# EAGLE library part BAS70VY-QX (library SamacSys_Parts)
General-purpose triple Schottky diode Source: Datasheet <https://assets.nexperia.com/documents/data-sheet/BAS70VY-Q.pdf>
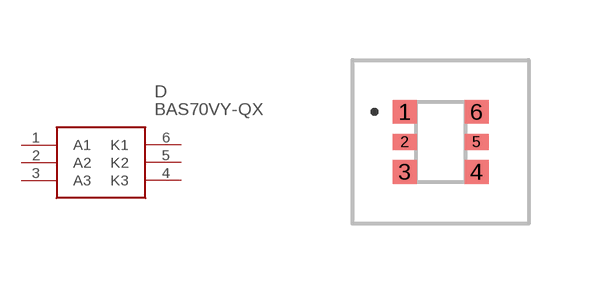
[diagram p47: symbol with the pads of BAS70VYQX; footprint BAS70VYQX]

Designator prefix D

## BAS70VY-QX (DESCRIPTION: General-purpose triple Schottky diode; HEIGHT: 1.1mm; MANUFACTURER_NAME: Nexperia; MANUFACTURER_PART_NUMBER: BAS70VY-QX; MOUSER_PART_NUMBER: 771-BAS70VY-QX; MOUSER_PRICE-STOCK: https://www.mouser.co.uk/ProductDetail/Nexperia/BAS70VY-QX?qs=3Rah4i%252BhyCE5hlgUt7xaeA%3D%3D)  [BAS70VYQX]
1  A1
2  A2
3  A3
4  K3
5  K2
6  K1

## Footprint BAS70VYQX (pad centres in mm)
BAS70VY-QX-1
smd 0.6 x 0.6: 1 -0.9,0.75; 3 -0.9,-0.75; 4 0.9,-0.75; 6 0.9,0.75
smd 0.6 x 0.4: 2 -0.9,0; 5 0.9,0